# EAGLE library part LM13700 (library linear)
Transconductance Amplifier dual with linearizing diodes and buffers
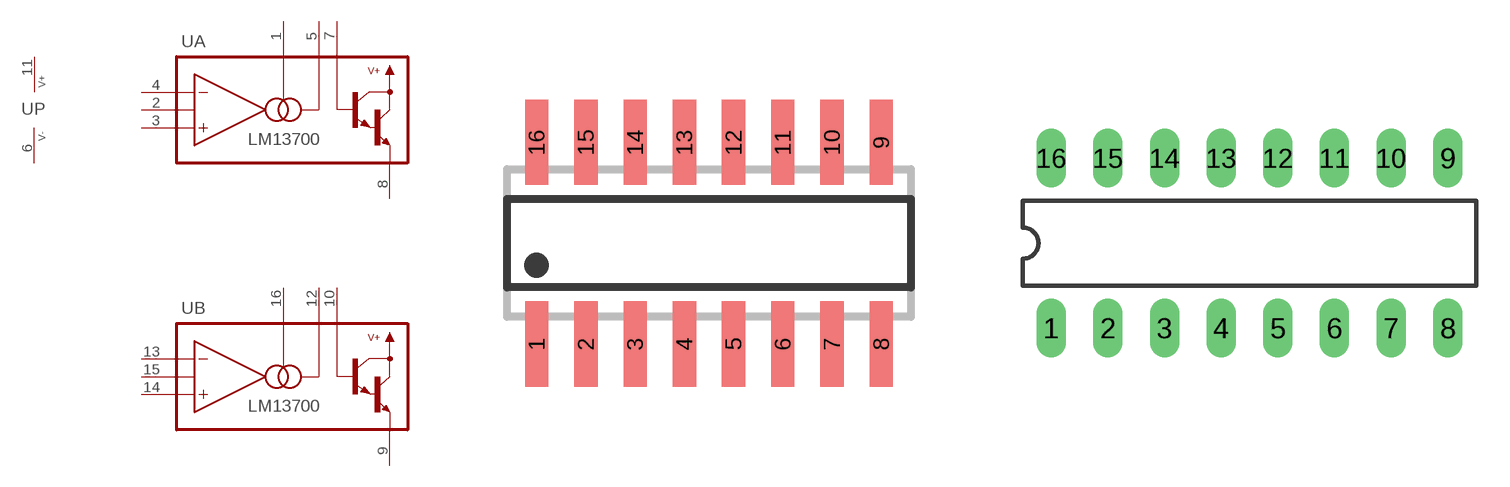
[diagram p212: symbol with the pads of SO16; footprints SO16, DIL16]

Designator prefix U; gates A=LM13700 B=LM13700 P=PWR+-

## LM13700M  [SO16]
1  A:ABIAS  in
2  A:DBIAS  in
3  A:+IN  in
4  A:-IN  in
5  A:OUT  out
6  P:V-  pwr
7  A:BIN  in
8  A:BOUT  pas
9  B:BOUT  pas
10  B:BIN  in
11  P:V+  pwr
12  B:OUT  out
13  B:-IN  in
14  B:+IN  in
15  B:DBIAS  in
16  B:ABIAS  in

## LM13700D  [DIL16]
1  A:ABIAS  in
2  A:DBIAS  in
3  B:+IN  in
4  B:-IN  in
5  A:OUT  out
6  P:V-  pwr
7  A:BIN  in
8  A:BOUT  pas
9  B:BOUT  pas
10  B:BIN  in
11  P:V+  pwr
12  B:OUT  out
13  A:-IN  in
14  A:+IN  in
15  B:DBIAS  in
16  B:ABIAS  in

## Footprint SO16 (pad centres in mm)
SMALL OUTLINE INTEGRATED CIRCUIT body 3.9 mm/JEDEC MS-012AC
smd 0.6 x 2.2: 1 -4.445,-2.6; 2 -3.175,-2.6; 3 -1.905,-2.6; 4 -0.635,-2.6; 5 0.635,-2.6; 6 1.905,-2.6; 7 3.175,-2.6; 8 4.445,-2.6; 9 4.445,2.6; 10 3.175,2.6; 11 1.905,2.6; 12 0.635,2.6; 13 -0.635,2.6; 14 -1.905,2.6; 15 -3.175,2.6; 16 -4.445,2.6

## Footprint DIL16 (pad centres in mm)
Dual In Line Package
drill 0.813 long: 1 -8.89,-3.81; 2 -6.35,-3.81; 3 -3.81,-3.81; 4 -1.27,-3.81; 5 1.27,-3.81; 6 3.81,-3.81; 7 6.35,-3.81; 8 8.89,-3.81; 9 8.89,3.81; 10 6.35,3.81; 11 3.81,3.81; 12 1.27,3.81; 13 -1.27,3.81; 14 -3.81,3.81; 15 -6.35,3.81; 16 -8.89,3.81